# Altium integrated library Linear Technology Power Management Power-Over-Ethernet (PoE) Interface Controllers.IntLib: 174 symbols (part 5 of 16)
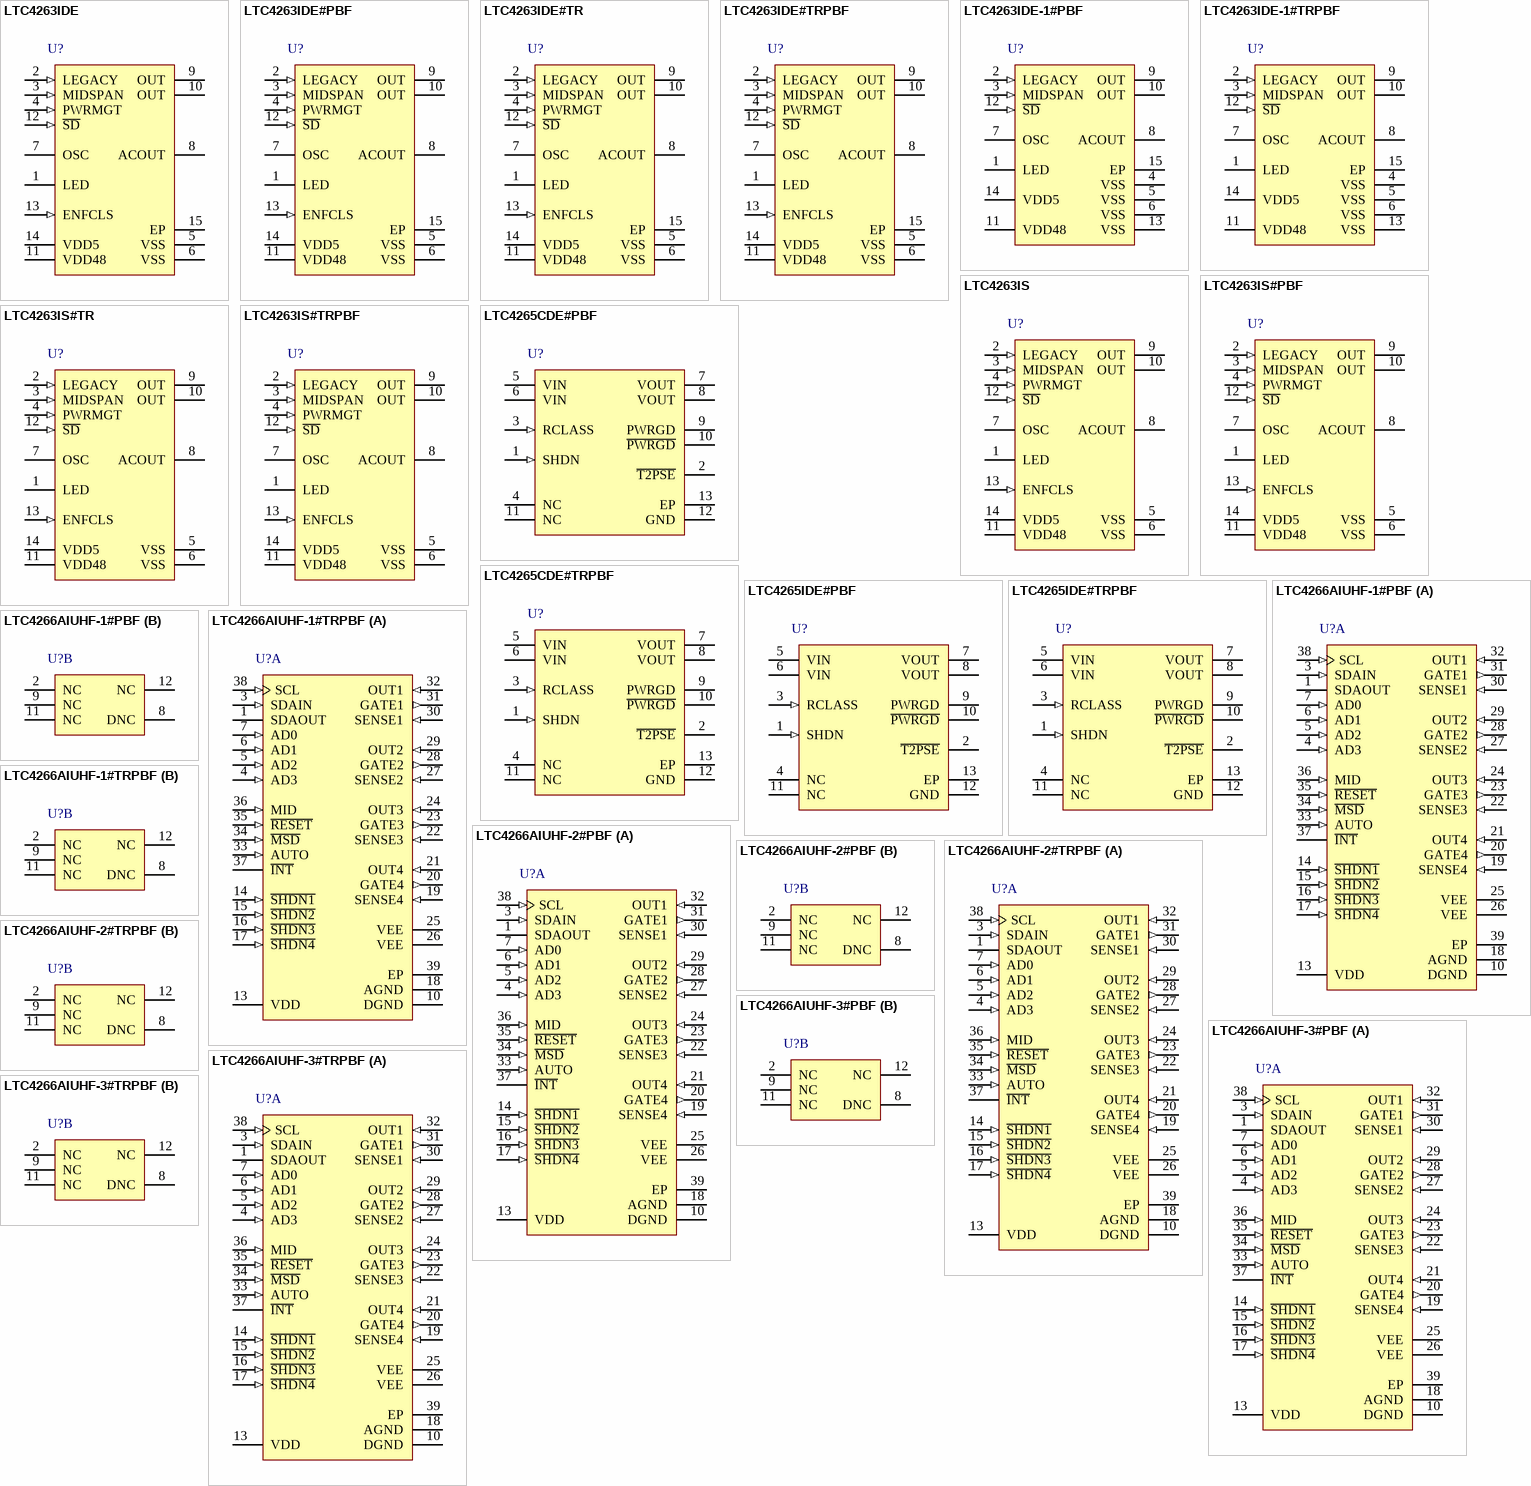
[diagram p12: symbols LTC4263IDE to LTC4266AIUHF-3#TRPBF]

## LTC4263IS
designator U?
Single IEEE 802.3af Compliant PSE Controller with Internal Switch, 14-pin SOIC (S-14), -40 to 85 degC; Manufacturer: Linear Technology; PartNumber: LTC4263IS; Channels(#): 1; Extended Temp: C, I; I2C Interface: no; Max Power(W): 12.95; DatasheetVersion: Rev. E; PackageVersion: Rev. G, 03/2012; PackageReference: S-14; PackageDescription: 14-Pin Plastic Small Outline, Body 8.65 x 3.9 mm, Pitch 1.27 mm; PoE Type: 1; PSE/PD: PSE; RoHS: FALSE; Mounting Technology: Surface Mount; ComponentLink1Description: Manufacturer URL; ComponentLink1URL: http://www.linear.com/; ComponentLink2Description: Datasheet; ComponentLink2URL: http://cds.linear.com/docs/en/datasheet/4263fe.pdf; ComponentLink3Description: Package Specification; ComponentLink3URL: http://cds.linear.com/docs/en/packaging/05081610_G_S14.pdf
footprint LT-S-14_N (SOIC, 14-Leads, Body 8.7x4mm, Pitch 1.27mm, IPC Medium Density)
footprint LT-S-14_L (SOIC, 14-Leads, Body 8.7x4mm, Pitch 1.27mm, IPC High Density)
footprint LT-S-14_M (SOIC, 14-Leads, Body 8.7x4mm, Pitch 1.27mm, IPC Low Density)
pins: 1 LED (oc) "Port State LED Drive. This pin is an open drain output that pulls down when the port is powered. Under port fault conditions, the LED will fl ash in patterns to indicate the nature of the port fault. See the Applications (See Datasheet)", 2 LEGACY (in) "Legacy Detect. This pin controls whether legacy detect is enabled. If held at VDD5, legacy detect is enabled and testing for a large capacitor is performed to detect the presence of a legacy PD on the port.", 3 MIDSPAN (in) "Midspan Enable. If this pin is connected to VDD5, Midspan backoff is enabled and a 3.2 second delay occurs after every failed detect cycle unless the result is open circuit. If held at VSS, no delay occurs after failed (See Datasheet)", 4 PWRMGT (in) "Power Management. The LTC4263 sources current at the PWRMGT pin proportional to the class of the PD that it is powering.", 5 VSS (power) "Negative 48V Supply. Pins 5 and 6 should be tied together on the PCB.", 6 VSS (power) "Negative 48V Supply. Pins 5 and 6 should be tied together on the PCB.", 7 OSC "Oscillator for AC Disconnect. If AC disconnect is used, connect a 0.1uF X7R capacitor from OSC to VSS. Tie OSC to VSS to disable AC disconnect and enable DC disconnect.", 8 ACOUT "AC Disconnect Sense. Senses the port to determine whether a PD is still connected when in AC disconnect mode.", 9 OUT "Port Output. If DC disconnect is used, these pins are connected to the port. If AC disconnect is used, these pins are connected to the port through a parallel combination of a 1A diode and a 500k resistor. Pins 9 and 10 (See Datasheet)", 10 OUT "Port Output. If DC disconnect is used, these pins are connected to the port. If AC disconnect is used, these pins are connected to the port through a parallel combination of a 1A diode and a 500k resistor. Pins 9 and 10 (See Datasheet)", 11 VDD48 (power) "48V Return. Must be bypassed with a 0.1uF capacitor to VSS.", 12 ~{SD} (in) "Shutdown. If held low, the LTC4263 is prevented from performing detection or powering the port. Pulling S\D\ low will turn off the port if it is powered. When released, a 4-second delay will occur before detection is (See Datasheet)", 13 ENFCLS (in) "Enforce Class Current Limits. If held at VDD5, the LTC4263 will reduce the ICUT threshold for class 1 or class 2 PDs. If ENFCLS is held at VSS, ICUT remains at 375mA (typ) for all classes.", 14 VDD5 (power) "Logic Power Supply."

## LTC4263IS#PBF
designator U?
Single IEEE 802.3af Compliant PSE Controller with Internal Switch, 14-pin SOIC (S-14), -40 to 85 degC, Pb-Free; Manufacturer: Linear Technology; PartNumber: LTC4263IS#PBF; Channels(#): 1; Extended Temp: C, I; I2C Interface: no; Max Power(W): 12.95; DatasheetVersion: Rev. E; PackageVersion: Rev. G, 03/2012; PackageReference: S-14; PackageDescription: 14-Pin Plastic Small Outline, Body 8.65 x 3.9 mm, Pitch 1.27 mm; Supplier 1: Digi-Key; Supplier Part Number 1: LTC4263IS#PBF-ND; Supplier 2: Newark; Supplier Part Number 2: 56M9180; PoE Type: 1; PSE/PD: PSE; RoHS: TRUE; Mounting Technology: Surface Mount; ComponentLink1Description: Manufacturer URL; ComponentLink1URL: http://www.linear.com/; ComponentLink2Description: Datasheet; ComponentLink2URL: http://cds.linear.com/docs/en/datasheet/4263fe.pdf; ComponentLink3Description: Package Specification; ComponentLink3URL: http://cds.linear.com/docs/en/packaging/05081610_G_S14.pdf
footprint LT-S-14_N (SOIC, 14-Leads, Body 8.7x4mm, Pitch 1.27mm, IPC Medium Density)
footprint LT-S-14_L (SOIC, 14-Leads, Body 8.7x4mm, Pitch 1.27mm, IPC High Density)
footprint LT-S-14_M (SOIC, 14-Leads, Body 8.7x4mm, Pitch 1.27mm, IPC Low Density)
pins: 1 LED (oc) "Port State LED Drive. This pin is an open drain output that pulls down when the port is powered. Under port fault conditions, the LED will fl ash in patterns to indicate the nature of the port fault. See the Applications (See Datasheet)", 2 LEGACY (in) "Legacy Detect. This pin controls whether legacy detect is enabled. If held at VDD5, legacy detect is enabled and testing for a large capacitor is performed to detect the presence of a legacy PD on the port.", 3 MIDSPAN (in) "Midspan Enable. If this pin is connected to VDD5, Midspan backoff is enabled and a 3.2 second delay occurs after every failed detect cycle unless the result is open circuit. If held at VSS, no delay occurs after failed (See Datasheet)", 4 PWRMGT (in) "Power Management. The LTC4263 sources current at the PWRMGT pin proportional to the class of the PD that it is powering.", 5 VSS (power) "Negative 48V Supply. Pins 5 and 6 should be tied together on the PCB.", 6 VSS (power) "Negative 48V Supply. Pins 5 and 6 should be tied together on the PCB.", 7 OSC "Oscillator for AC Disconnect. If AC disconnect is used, connect a 0.1uF X7R capacitor from OSC to VSS. Tie OSC to VSS to disable AC disconnect and enable DC disconnect.", 8 ACOUT "AC Disconnect Sense. Senses the port to determine whether a PD is still connected when in AC disconnect mode.", 9 OUT "Port Output. If DC disconnect is used, these pins are connected to the port. If AC disconnect is used, these pins are connected to the port through a parallel combination of a 1A diode and a 500k resistor. Pins 9 and 10 (See Datasheet)", 10 OUT "Port Output. If DC disconnect is used, these pins are connected to the port. If AC disconnect is used, these pins are connected to the port through a parallel combination of a 1A diode and a 500k resistor. Pins 9 and 10 (See Datasheet)", 11 VDD48 (power) "48V Return. Must be bypassed with a 0.1uF capacitor to VSS.", 12 ~{SD} (in) "Shutdown. If held low, the LTC4263 is prevented from performing detection or powering the port. Pulling S\D\ low will turn off the port if it is powered. When released, a 4-second delay will occur before detection is (See Datasheet)", 13 ENFCLS (in) "Enforce Class Current Limits. If held at VDD5, the LTC4263 will reduce the ICUT threshold for class 1 or class 2 PDs. If ENFCLS is held at VSS, ICUT remains at 375mA (typ) for all classes.", 14 VDD5 (power) "Logic Power Supply."

## LTC4263IS#TR
designator U?
Single IEEE 802.3af Compliant PSE Controller with Internal Switch, 14-pin SOIC (S-14), -40 to 85 degC, Tape and Reel; Manufacturer: Linear Technology; PartNumber: LTC4263IS#TR; Channels(#): 1; Extended Temp: C, I; I2C Interface: no; Max Power(W): 12.95; DatasheetVersion: Rev. E; PackageVersion: Rev. G, 03/2012; PackageReference: S-14; PackageDescription: 14-Pin Plastic Small Outline, Body 8.65 x 3.9 mm, Pitch 1.27 mm; Packing: Tape and Reel; PoE Type: 1; PSE/PD: PSE; RoHS: FALSE; Mounting Technology: Surface Mount; ComponentLink1Description: Manufacturer URL; ComponentLink1URL: http://www.linear.com/; ComponentLink2Description: Datasheet; ComponentLink2URL: http://cds.linear.com/docs/en/datasheet/4263fe.pdf; ComponentLink3Description: Package Specification; ComponentLink3URL: http://cds.linear.com/docs/en/packaging/05081610_G_S14.pdf
footprint LT-S-14_N (SOIC, 14-Leads, Body 8.7x4mm, Pitch 1.27mm, IPC Medium Density)
footprint LT-S-14_L (SOIC, 14-Leads, Body 8.7x4mm, Pitch 1.27mm, IPC High Density)
footprint LT-S-14_M (SOIC, 14-Leads, Body 8.7x4mm, Pitch 1.27mm, IPC Low Density)
pins: 1 LED (oc) "Port State LED Drive. This pin is an open drain output that pulls down when the port is powered. Under port fault conditions, the LED will fl ash in patterns to indicate the nature of the port fault. See the Applications (See Datasheet)", 2 LEGACY (in) "Legacy Detect. This pin controls whether legacy detect is enabled. If held at VDD5, legacy detect is enabled and testing for a large capacitor is performed to detect the presence of a legacy PD on the port.", 3 MIDSPAN (in) "Midspan Enable. If this pin is connected to VDD5, Midspan backoff is enabled and a 3.2 second delay occurs after every failed detect cycle unless the result is open circuit. If held at VSS, no delay occurs after failed (See Datasheet)", 4 PWRMGT (in) "Power Management. The LTC4263 sources current at the PWRMGT pin proportional to the class of the PD that it is powering.", 5 VSS (power) "Negative 48V Supply. Pins 5 and 6 should be tied together on the PCB.", 6 VSS (power) "Negative 48V Supply. Pins 5 and 6 should be tied together on the PCB.", 7 OSC "Oscillator for AC Disconnect. If AC disconnect is used, connect a 0.1uF X7R capacitor from OSC to VSS. Tie OSC to VSS to disable AC disconnect and enable DC disconnect.", 8 ACOUT "AC Disconnect Sense. Senses the port to determine whether a PD is still connected when in AC disconnect mode.", 9 OUT "Port Output. If DC disconnect is used, these pins are connected to the port. If AC disconnect is used, these pins are connected to the port through a parallel combination of a 1A diode and a 500k resistor. Pins 9 and 10 (See Datasheet)", 10 OUT "Port Output. If DC disconnect is used, these pins are connected to the port. If AC disconnect is used, these pins are connected to the port through a parallel combination of a 1A diode and a 500k resistor. Pins 9 and 10 (See Datasheet)", 11 VDD48 (power) "48V Return. Must be bypassed with a 0.1uF capacitor to VSS.", 12 ~{SD} (in) "Shutdown. If held low, the LTC4263 is prevented from performing detection or powering the port. Pulling S\D\ low will turn off the port if it is powered. When released, a 4-second delay will occur before detection is (See Datasheet)", 13 ENFCLS (in) "Enforce Class Current Limits. If held at VDD5, the LTC4263 will reduce the ICUT threshold for class 1 or class 2 PDs. If ENFCLS is held at VSS, ICUT remains at 375mA (typ) for all classes.", 14 VDD5 (power) "Logic Power Supply."

## LTC4263IS#TRPBF
designator U?
Single IEEE 802.3af Compliant PSE Controller with Internal Switch, 14-pin SOIC (S-14), -40 to 85 degC, Pb-Free, Tape and Reel; Manufacturer: Linear Technology; PartNumber: LTC4263IS#TRPBF; Channels(#): 1; Extended Temp: C, I; I2C Interface: no; Max Power(W): 12.95; DatasheetVersion: Rev. E; PackageVersion: Rev. G, 03/2012; PackageReference: S-14; PackageDescription: 14-Pin Plastic Small Outline, Body 8.65 x 3.9 mm, Pitch 1.27 mm; Supplier 1: Digi-Key; Supplier Part Number 1: LTC4263IS#TRPBF-ND; Packing: Tape and Reel; PoE Type: 1; PSE/PD: PSE; RoHS: TRUE; Mounting Technology: Surface Mount; ComponentLink1Description: Manufacturer URL; ComponentLink1URL: http://www.linear.com/; ComponentLink2Description: Datasheet; ComponentLink2URL: http://cds.linear.com/docs/en/datasheet/4263fe.pdf; ComponentLink3Description: Package Specification; ComponentLink3URL: http://cds.linear.com/docs/en/packaging/05081610_G_S14.pdf
footprint LT-S-14_N (SOIC, 14-Leads, Body 8.7x4mm, Pitch 1.27mm, IPC Medium Density)
footprint LT-S-14_L (SOIC, 14-Leads, Body 8.7x4mm, Pitch 1.27mm, IPC High Density)
footprint LT-S-14_M (SOIC, 14-Leads, Body 8.7x4mm, Pitch 1.27mm, IPC Low Density)
pins: 1 LED (oc) "Port State LED Drive. This pin is an open drain output that pulls down when the port is powered. Under port fault conditions, the LED will fl ash in patterns to indicate the nature of the port fault. See the Applications (See Datasheet)", 2 LEGACY (in) "Legacy Detect. This pin controls whether legacy detect is enabled. If held at VDD5, legacy detect is enabled and testing for a large capacitor is performed to detect the presence of a legacy PD on the port.", 3 MIDSPAN (in) "Midspan Enable. If this pin is connected to VDD5, Midspan backoff is enabled and a 3.2 second delay occurs after every failed detect cycle unless the result is open circuit. If held at VSS, no delay occurs after failed (See Datasheet)", 4 PWRMGT (in) "Power Management. The LTC4263 sources current at the PWRMGT pin proportional to the class of the PD that it is powering.", 5 VSS (power) "Negative 48V Supply. Pins 5 and 6 should be tied together on the PCB.", 6 VSS (power) "Negative 48V Supply. Pins 5 and 6 should be tied together on the PCB.", 7 OSC "Oscillator for AC Disconnect. If AC disconnect is used, connect a 0.1uF X7R capacitor from OSC to VSS. Tie OSC to VSS to disable AC disconnect and enable DC disconnect.", 8 ACOUT "AC Disconnect Sense. Senses the port to determine whether a PD is still connected when in AC disconnect mode.", 9 OUT "Port Output. If DC disconnect is used, these pins are connected to the port. If AC disconnect is used, these pins are connected to the port through a parallel combination of a 1A diode and a 500k resistor. Pins 9 and 10 (See Datasheet)", 10 OUT "Port Output. If DC disconnect is used, these pins are connected to the port. If AC disconnect is used, these pins are connected to the port through a parallel combination of a 1A diode and a 500k resistor. Pins 9 and 10 (See Datasheet)", 11 VDD48 (power) "48V Return. Must be bypassed with a 0.1uF capacitor to VSS.", 12 ~{SD} (in) "Shutdown. If held low, the LTC4263 is prevented from performing detection or powering the port. Pulling S\D\ low will turn off the port if it is powered. When released, a 4-second delay will occur before detection is (See Datasheet)", 13 ENFCLS (in) "Enforce Class Current Limits. If held at VDD5, the LTC4263 will reduce the ICUT threshold for class 1 or class 2 PDs. If ENFCLS is held at VSS, ICUT remains at 375mA (typ) for all classes.", 14 VDD5 (power) "Logic Power Supply."

## LTC4265CDE#PBF
designator U?
IEEE 802.3at High Power PD Interface Controller with 2-Event Classification Recognition,12-pin SON (DE-12), 0 to 70 degC, Pb-Free; Manufacturer: Linear Technology; PartNumber: LTC4265CDE#PBF; Channels(#): 1; Extended Temp: C, I; I2C Interface: no; Max Power(W): 25.5; PoE Type: 2; DatasheetVersion: Rev. A; PackageVersion: Rev. D, 06/2010; PackageReference: DE-12; PackageDescription: 12-Pin Plastic DFN, Body 4 x 3 mm, Pitch 0.5 mm; Supplier 1: Digi-Key; Supplier Part Number 1: LTC4265CDE#PBF-ND; Supplier 2: Newark; Supplier Part Number 2: 44P2420; PSE/PD: PD; RoHS: TRUE; Mounting Technology: Surface Mount; Code_JEDEC: MO-229; ComponentLink1Description: Manufacturer URL; ComponentLink1URL: http://www.linear.com/; ComponentLink2Description: Datasheet; ComponentLink2URL: http://cds.linear.com/docs/en/datasheet/4265fa.pdf; ComponentLink3Description: Package Specification; ComponentLink3URL: http://cds.linear.com/docs/en/packaging/DFN_12_05-08-1695.pdf
footprint LT-DE-12-05-08-1695_V (SON, 12-Leads, Body 4x3mm, Pitch 0.5mm, Thermal Pad 3.3x1.7mm)
pins: 1 SHDN (in) "Shutdown Input. Use this pin for auxiliary power application. Drive SHDN high to disable LTC4265 operation and corrupt the signature resistance. If unused, tie SHDN to VIN.", 2 ~{T2PSE} (oc) "Type-2 PSE Indicator, Open-Drain. Low impedance indicates the presence of a Type-2 PSE.", 3 RCLASS (in) "Class Select Input. Connect a resistor between RCLASS and VIN to set the classification load current. (See Table 2.)", 4 NC "No Connect", 5 VIN (power) "Input Voltage, Negative Rail. Pins 5 and 6 must be electrically tied together at the package.", 6 VIN (power) "Input Voltage, Negative Rail. Pins 5 and 6 must be electrically tied together at the package.", 7 VOUT (power) "Output Voltage Negative Rail. Connects VOUT to VIN through an internal power MOSFET. Pins 7 and 8 must be electrically tied together at the package.", 8 VOUT (power) "Output Voltage Negative Rail. Connects VOUT to VIN through an internal power MOSFET. Pins 7 and 8 must be electrically tied together at the package.", 9 PWRGD (hiz) "Power Good Output, Open Collector. High impedance signals power-up completion. PWRGD is referenced to VOUT and features a 14V clamp.", 10 ~{PWRGD} (oc) "Complementary Power Good Output, Open-Drain. Low impedance signals power up completion. P\W\R\G\D\ is referenced to VIN.", 11 NC "No Connect", 12 GND (power) "Input Voltage, Positive Rail. This pin is connected to the PD positive rail.", 13 EP (power) "Tie to VIN and PCB heat sink."

## LTC4265CDE#TRPBF
designator U?
IEEE 802.3at High Power PD Interface Controller with 2-Event Classification Recognition,12-pin SON (DE-12), 0 to 70 degC, Pb-Free, Tape and Reel; Manufacturer: Linear Technology; PartNumber: LTC4265CDE#TRPBF; Channels(#): 1; Extended Temp: C, I; I2C Interface: no; Max Power(W): 25.5; PoE Type: 2; DatasheetVersion: Rev. A; PackageVersion: Rev. D, 06/2010; PackageReference: DE-12; PackageDescription: 12-Pin Plastic DFN, Body 4 x 3 mm, Pitch 0.5 mm; Supplier 1: Digi-Key; Supplier Part Number 1: LTC4265CDE#TRPBF-ND; Supplier 2: Newark; Supplier Part Number 2: 44P3986; Packing: Tape and Reel; PSE/PD: PD; RoHS: TRUE; Mounting Technology: Surface Mount; Code_JEDEC: MO-229; ComponentLink1Description: Manufacturer URL; ComponentLink1URL: http://www.linear.com/; ComponentLink2Description: Datasheet; ComponentLink2URL: http://cds.linear.com/docs/en/datasheet/4265fa.pdf; ComponentLink3Description: Package Specification; ComponentLink3URL: http://cds.linear.com/docs/en/packaging/DFN_12_05-08-1695.pdf
footprint LT-DE-12-05-08-1695_V (SON, 12-Leads, Body 4x3mm, Pitch 0.5mm, Thermal Pad 3.3x1.7mm)
pins: 1 SHDN (in) "Shutdown Input. Use this pin for auxiliary power application. Drive SHDN high to disable LTC4265 operation and corrupt the signature resistance. If unused, tie SHDN to VIN.", 2 ~{T2PSE} (oc) "Type-2 PSE Indicator, Open-Drain. Low impedance indicates the presence of a Type-2 PSE.", 3 RCLASS (in) "Class Select Input. Connect a resistor between RCLASS and VIN to set the classification load current. (See Table 2.)", 4 NC "No Connect", 5 VIN (power) "Input Voltage, Negative Rail. Pins 5 and 6 must be electrically tied together at the package.", 6 VIN (power) "Input Voltage, Negative Rail. Pins 5 and 6 must be electrically tied together at the package.", 7 VOUT (power) "Output Voltage Negative Rail. Connects VOUT to VIN through an internal power MOSFET. Pins 7 and 8 must be electrically tied together at the package.", 8 VOUT (power) "Output Voltage Negative Rail. Connects VOUT to VIN through an internal power MOSFET. Pins 7 and 8 must be electrically tied together at the package.", 9 PWRGD (hiz) "Power Good Output, Open Collector. High impedance signals power-up completion. PWRGD is referenced to VOUT and features a 14V clamp.", 10 ~{PWRGD} (oc) "Complementary Power Good Output, Open-Drain. Low impedance signals power up completion. P\W\R\G\D\ is referenced to VIN.", 11 NC "No Connect", 12 GND (power) "Input Voltage, Positive Rail. This pin is connected to the PD positive rail.", 13 EP (power) "Tie to VIN and PCB heat sink."

## LTC4265IDE#PBF
designator U?
IEEE 802.3at High Power PD Interface Controller with 2-Event Classification Recognition,12-pin SON (DE-12), -40 to 85 degC, Pb-Free; Manufacturer: Linear Technology; PartNumber: LTC4265IDE#PBF; Channels(#): 1; Extended Temp: C, I; I2C Interface: no; Max Power(W): 25.5; PoE Type: 2; DatasheetVersion: Rev. A; PackageVersion: Rev. D, 06/2010; PackageReference: DE-12; PackageDescription: 12-Pin Plastic DFN, Body 4 x 3 mm, Pitch 0.5 mm; Supplier 1: Digi-Key; Supplier Part Number 1: LTC4265IDE#PBF-ND; Supplier 2: Newark; Supplier Part Number 2: 44P2421; PSE/PD: PD; RoHS: TRUE; Mounting Technology: Surface Mount; Code_JEDEC: MO-229; ComponentLink1Description: Manufacturer URL; ComponentLink1URL: http://www.linear.com/; ComponentLink2Description: Datasheet; ComponentLink2URL: http://cds.linear.com/docs/en/datasheet/4265fa.pdf; ComponentLink3Description: Package Specification; ComponentLink3URL: http://cds.linear.com/docs/en/packaging/DFN_12_05-08-1695.pdf
footprint LT-DE-12-05-08-1695_V (SON, 12-Leads, Body 4x3mm, Pitch 0.5mm, Thermal Pad 3.3x1.7mm)
pins: 1 SHDN (in) "Shutdown Input. Use this pin for auxiliary power application. Drive SHDN high to disable LTC4265 operation and corrupt the signature resistance. If unused, tie SHDN to VIN.", 2 ~{T2PSE} (oc) "Type-2 PSE Indicator, Open-Drain. Low impedance indicates the presence of a Type-2 PSE.", 3 RCLASS (in) "Class Select Input. Connect a resistor between RCLASS and VIN to set the classification load current. (See Table 2.)", 4 NC "No Connect", 5 VIN (power) "Input Voltage, Negative Rail. Pins 5 and 6 must be electrically tied together at the package.", 6 VIN (power) "Input Voltage, Negative Rail. Pins 5 and 6 must be electrically tied together at the package.", 7 VOUT (power) "Output Voltage Negative Rail. Connects VOUT to VIN through an internal power MOSFET. Pins 7 and 8 must be electrically tied together at the package.", 8 VOUT (power) "Output Voltage Negative Rail. Connects VOUT to VIN through an internal power MOSFET. Pins 7 and 8 must be electrically tied together at the package.", 9 PWRGD (hiz) "Power Good Output, Open Collector. High impedance signals power-up completion. PWRGD is referenced to VOUT and features a 14V clamp.", 10 ~{PWRGD} (oc) "Complementary Power Good Output, Open-Drain. Low impedance signals power up completion. P\W\R\G\D\ is referenced to VIN.", 11 NC "No Connect", 12 GND (power) "Input Voltage, Positive Rail. This pin is connected to the PD positive rail.", 13 EP (power) "Tie to VIN and PCB heat sink."

## LTC4265IDE#TRPBF
designator U?
IEEE 802.3at High Power PD Interface Controller with 2-Event Classification Recognition,12-pin SON (DE-12), -40 to 85 degC, Pb-Free, Tape and Reel; Manufacturer: Linear Technology; PartNumber: LTC4265IDE#TRPBF; Channels(#): 1; Extended Temp: C, I; I2C Interface: no; Max Power(W): 25.5; PoE Type: 2; DatasheetVersion: Rev. A; PackageVersion: Rev. D, 06/2010; PackageReference: DE-12; PackageDescription: 12-Pin Plastic DFN, Body 4 x 3 mm, Pitch 0.5 mm; Supplier 1: Digi-Key; Supplier Part Number 1: LTC4265IDE#TRPBF-ND; Supplier 2: Newark; Supplier Part Number 2: 44P3987; Packing: Tape and Reel; PSE/PD: PD; RoHS: TRUE; Mounting Technology: Surface Mount; Code_JEDEC: MO-229; ComponentLink1Description: Manufacturer URL; ComponentLink1URL: http://www.linear.com/; ComponentLink2Description: Datasheet; ComponentLink2URL: http://cds.linear.com/docs/en/datasheet/4265fa.pdf; ComponentLink3Description: Package Specification; ComponentLink3URL: http://cds.linear.com/docs/en/packaging/DFN_12_05-08-1695.pdf
footprint LT-DE-12-05-08-1695_V (SON, 12-Leads, Body 4x3mm, Pitch 0.5mm, Thermal Pad 3.3x1.7mm)
pins: 1 SHDN (in) "Shutdown Input. Use this pin for auxiliary power application. Drive SHDN high to disable LTC4265 operation and corrupt the signature resistance. If unused, tie SHDN to VIN.", 2 ~{T2PSE} (oc) "Type-2 PSE Indicator, Open-Drain. Low impedance indicates the presence of a Type-2 PSE.", 3 RCLASS (in) "Class Select Input. Connect a resistor between RCLASS and VIN to set the classification load current. (See Table 2.)", 4 NC "No Connect", 5 VIN (power) "Input Voltage, Negative Rail. Pins 5 and 6 must be electrically tied together at the package.", 6 VIN (power) "Input Voltage, Negative Rail. Pins 5 and 6 must be electrically tied together at the package.", 7 VOUT (power) "Output Voltage Negative Rail. Connects VOUT to VIN through an internal power MOSFET. Pins 7 and 8 must be electrically tied together at the package.", 8 VOUT (power) "Output Voltage Negative Rail. Connects VOUT to VIN through an internal power MOSFET. Pins 7 and 8 must be electrically tied together at the package.", 9 PWRGD (hiz) "Power Good Output, Open Collector. High impedance signals power-up completion. PWRGD is referenced to VOUT and features a 14V clamp.", 10 ~{PWRGD} (oc) "Complementary Power Good Output, Open-Drain. Low impedance signals power up completion. P\W\R\G\D\ is referenced to VIN.", 11 NC "No Connect", 12 GND (power) "Input Voltage, Positive Rail. This pin is connected to the PD positive rail.", 13 EP (power) "Tie to VIN and PCB heat sink."

## LTC4266AIUHF-1#PBF
designator U?
Quad PoE / PoE+ / LTPoE++ PSE Controller, 38-pin QFN (UHF-38), -40 to 85 degC, Pb-Free; Manufacturer: Linear Technology; PartNumber: LTC4266AIUHF-1#PBF; Channels(#): 4; Extended Temp: I; I2C Interface: yes; Max Power(W): 38.7; DatasheetVersion: Rev. C; PackageVersion: Rev. C, 06/2010; PackageReference: UHF-38; PackageDescription: 38-Pin Plastic QFN, Body 7 x 5 mm, Pitch 0.5 mm; Supplier 1: Digi-Key; Supplier Part Number 1: LTC4266AIUHF-1#PBF-ND; Supplier 2: Farnell; Supplier Part Number 2: 2293143; Supplier 3: Newark; Supplier Part Number 3: 59T5698; PoE Type: LTPoE++; PSE/PD: PSE; RoHS: TRUE; Mounting Technology: Surface Mount; Code_JEDEC: MO-220; ComponentLink1Description: Manufacturer URL; ComponentLink1URL: http://www.linear.com/; ComponentLink2Description: Datasheet; ComponentLink2URL: http://cds.linear.com/docs/en/datasheet/4266acfc.pdf; ComponentLink3Description: Package Specification; ComponentLink3URL: http://cds.linear.com/docs/en/packaging/QFN_38_05-08-1701.pdf
footprint LT-UHF-38_N (QFN, 38-Leads, Body 7.1x5.1mm, Pitch 0.5mm, Thermal Pad 3.15x5.15mm, IPC Medium Density)
footprint LT-UHF-38_L (QFN, 38-Leads, Body 7.1x5.1mm, Pitch 0.5mm, Thermal Pad 3.15x5.15mm, IPC High Density)
footprint LT-UHF-38_M (QFN, 38-Leads, Body 7.1x5.1mm, Pitch 0.5mm, Thermal Pad 3.15x5.15mm, IPC Low Density)
part A pins: 1 SDAOUT (oc) "SDAOUT: Serial Data Output, Open Drain Data Output for the I2C Serial Interface Bus. The LTC4266A/LTC4266C uses two pins to implement the bidirectional SDA function to simplify optoisolation of the I2C bus. To implement a (See Datasheet)", 3 SDAIN (in) "SDAIN: Serial Data Input. High impedance data input for the I2C serial interface bus. The LTC4266A/LTC4266C uses two pins to implement the bidirectional SDA function to simplify optoisolation of the I2C bus. To implement a (See Datasheet)", 4 AD3 (in) "AD3: Address Bit 3. Tie the address pins high or low to set the I2C serial address to which the LTC4266A/LTC4266C responds. This address will be 010A3A2A1A0b. Internally pulled up to VDD.", 5 AD2 (in) "AD2: Address Bit 2. See AD3.", 6 AD1 (in) "AD1: Address Bit 1. See AD3.", 7 AD0 (in) "AD0: Address Bit 0. See AD3.", 10 DGND (power) "DGND: Digital Ground. DGND is the return for the VDD supply.", 13 VDD (power) "VDD: Logic Power Supply. Connect to a 3.3V power supply relative to DGND. VDD must be bypassed to DGND near the LTC4266A/LTC4266C with at least a 0.1uF capacitor.", 14 ~{SHDN1} (in) "S\H\D\N\1\: Shutdown Port 1, Active Low. When pulled low, S\H\D\N\1\ shuts down port 1, regardless of the state of the internal registers. Pulling S\H\D\N\1\ low is equivalent to setting the Reset Port 1 bit in the Reset (See Datasheet)", 15 ~{SHDN2} (in) "S\H\D\N\2\: Shutdown Port 2, Active Low. See S\H\D\N\1\.", 16 ~{SHDN3} (in) "S\H\D\N\3\: Shutdown Port 3, Active Low. See S\H\D\N\1\.", 17 ~{SHDN4} (in) "S\H\D\N\4\: Shutdown Port 4, Active Low. See S\H\D\N\1\.", 18 AGND (power) "AGND: Analog Ground. AGND is the return for the VEE supply.", 19 SENSE4 (in) "SENSE4: Port 4 Current Sense Input. SENSE4 monitors the external MOSFET current via a 0.5ohm or 0.25ohm sense resistor between SENSE4 and VEE. Whenever the voltage across the sense resistor exceeds the overcurrent detection (See Datasheet)", 20 GATE4 (out) "GATE4: Port 4 Gate Drive. GATE4 should be connected to the gate of the external MOSFET for port 4. When the MOSFET is turned on, the gate voltage is driven to 12V (typ) above VEE. During a current limit condition, the (See Datasheet)", 21 OUT4 (in) "OUT4: Port 4 Output Voltage Monitor. OUT4 should be connected to the output port. A current limit foldback circuit limits the power dissipation in the external MOSFET by reducing the current limit threshold when the (See Datasheet)", 22 SENSE3 (in) "SENSE3: Port 3 Current Sense Input. See SENSE4.", 23 GATE3 (out) "GATE3: Port 3 Gate Drive. See GATE4.", 24 OUT3 (in) "OUT3: Port 3 Output Voltage Monitor. See OUT4.", 25 VEE (power) "VEE: Main Supply Input. Connect to a -45V to -57V supply, relative to AGND.", 26 VEE (power) "VEE: Main Supply Input. Connect to a -45V to -57V supply, relative to AGND.", 27 SENSE2 (in) "SENSE2: Port 2 Current Sense Input. See SENSE4.", 28 GATE2 (out) "GATE2: Port 2 Gate Drive. See GATE4.", 29 OUT2 (in) "OUT2: Port 2 Output Voltage Monitor. See OUT4.", 30 SENSE1 (in) "SENSE1: Port 1 Current Sense Input. See SENSE4.", 31 GATE1 (out) "GATE1: Port 1 Gate Drive. See GATE 4.", 32 OUT1 (in) "OUT1: Port 1 Output Voltage Monitor. See OUT4.", 33 AUTO (in) "AUTO: AUTO Pin Mode Input. AUTO pin mode allows the LTC4266A/LTC4266C to detect and power up a PD even if there is no host controller present on the I2C bus. The voltage of the AUTO pin determines the state of the internal (See Datasheet)", 34 ~{MSD} (in) "M\S\D\: Maskable Shutdown Input. Active low. When pulled low, all ports that have their corresponding mask bit set in the Misc Config register (17h) will be reset, equivalent to pulling the S\H\D\N\ pin low. Internal (See Datasheet)", 35 ~{RESET} (in) "R\E\S\E\T\: Chip R\E\S\E\T\, Active Low. When the R\E\S\E\T\ pin is low, the LTC4266A/LTC4266C is held inactive with all ports off and all internal registers R\E\S\E\T\ to their power-up states. When R\E\S\E\T\ is pulled (See Datasheet)", 36 MID (in) "MID: Midspan Mode Input. When high, the LTC4266A/LTC4266C acts as a midspan device. Internally pulled down to DGND.", 37 ~{INT} (hiz) "I\N\T\: I\N\T\errupt Output, Open Drain. I\N\T\ will pull low when any one of several events occur in the LTC4266A/LTC4266C. It will return to a high impedance state when bits 6 or 7 are set in the Reset PB register (1Ah). (See Datasheet)", 38 SCL (in) "SCL: Serial Clock Input. High impedance clock input for the I2C serial interface bus. SCL must be tied high if not used.", 39 EP (power)
part B pins: 2 NC "NC, DNC: All pins identified with "NC" or "DNC" must be left unconnected.", 8 DNC "NC, DNC: All pins identified with "NC" or "DNC" must be left unconnected.", 9 NC "NC, DNC: All pins identified with "NC" or "DNC" must be left unconnected.", 11 NC "NC, DNC: All pins identified with "NC" or "DNC" must be left unconnected.", 12 NC "NC, DNC: All pins identified with "NC" or "DNC" must be left unconnected."

## LTC4266AIUHF-1#TRPBF
designator U?
Quad PoE / PoE+ / LTPoE++ PSE Controller, 38-pin QFN (UHF-38), -40 to 85 degC, Pb-Free, Tape and Reel; Manufacturer: Linear Technology; PartNumber: LTC4266AIUHF-1#TRPBF; Channels(#): 4; Extended Temp: I; I2C Interface: yes; Max Power(W): 38.7; DatasheetVersion: Rev. C; PackageVersion: Rev. C, 06/2010; PackageReference: UHF-38; PackageDescription: 38-Pin Plastic QFN, Body 7 x 5 mm, Pitch 0.5 mm; Supplier 1: Digi-Key; Supplier Part Number 1: LTC4266AIUHF-1#TRPBF-ND; Packing: Tape and Reel; PoE Type: LTPoE++; PSE/PD: PSE; RoHS: TRUE; Mounting Technology: Surface Mount; Code_JEDEC: MO-220; ComponentLink1Description: Manufacturer URL; ComponentLink1URL: http://www.linear.com/; ComponentLink2Description: Datasheet; ComponentLink2URL: http://cds.linear.com/docs/en/datasheet/4266acfc.pdf; ComponentLink3Description: Package Specification; ComponentLink3URL: http://cds.linear.com/docs/en/packaging/QFN_38_05-08-1701.pdf
footprint LT-UHF-38_N (QFN, 38-Leads, Body 7.1x5.1mm, Pitch 0.5mm, Thermal Pad 3.15x5.15mm, IPC Medium Density)
footprint LT-UHF-38_L (QFN, 38-Leads, Body 7.1x5.1mm, Pitch 0.5mm, Thermal Pad 3.15x5.15mm, IPC High Density)
footprint LT-UHF-38_M (QFN, 38-Leads, Body 7.1x5.1mm, Pitch 0.5mm, Thermal Pad 3.15x5.15mm, IPC Low Density)
part A pins: 1 SDAOUT (oc) "SDAOUT: Serial Data Output, Open Drain Data Output for the I2C Serial Interface Bus. The LTC4266A/LTC4266C uses two pins to implement the bidirectional SDA function to simplify optoisolation of the I2C bus. To implement a (See Datasheet)", 3 SDAIN (in) "SDAIN: Serial Data Input. High impedance data input for the I2C serial interface bus. The LTC4266A/LTC4266C uses two pins to implement the bidirectional SDA function to simplify optoisolation of the I2C bus. To implement a (See Datasheet)", 4 AD3 (in) "AD3: Address Bit 3. Tie the address pins high or low to set the I2C serial address to which the LTC4266A/LTC4266C responds. This address will be 010A3A2A1A0b. Internally pulled up to VDD.", 5 AD2 (in) "AD2: Address Bit 2. See AD3.", 6 AD1 (in) "AD1: Address Bit 1. See AD3.", 7 AD0 (in) "AD0: Address Bit 0. See AD3.", 10 DGND (power) "DGND: Digital Ground. DGND is the return for the VDD supply.", 13 VDD (power) "VDD: Logic Power Supply. Connect to a 3.3V power supply relative to DGND. VDD must be bypassed to DGND near the LTC4266A/LTC4266C with at least a 0.1uF capacitor.", 14 ~{SHDN1} (in) "S\H\D\N\1\: Shutdown Port 1, Active Low. When pulled low, S\H\D\N\1\ shuts down port 1, regardless of the state of the internal registers. Pulling S\H\D\N\1\ low is equivalent to setting the Reset Port 1 bit in the Reset (See Datasheet)", 15 ~{SHDN2} (in) "S\H\D\N\2\: Shutdown Port 2, Active Low. See S\H\D\N\1\.", 16 ~{SHDN3} (in) "S\H\D\N\3\: Shutdown Port 3, Active Low. See S\H\D\N\1\.", 17 ~{SHDN4} (in) "S\H\D\N\4\: Shutdown Port 4, Active Low. See S\H\D\N\1\.", 18 AGND (power) "AGND: Analog Ground. AGND is the return for the VEE supply.", 19 SENSE4 (in) "SENSE4: Port 4 Current Sense Input. SENSE4 monitors the external MOSFET current via a 0.5ohm or 0.25ohm sense resistor between SENSE4 and VEE. Whenever the voltage across the sense resistor exceeds the overcurrent detection (See Datasheet)", 20 GATE4 (out) "GATE4: Port 4 Gate Drive. GATE4 should be connected to the gate of the external MOSFET for port 4. When the MOSFET is turned on, the gate voltage is driven to 12V (typ) above VEE. During a current limit condition, the (See Datasheet)", 21 OUT4 (in) "OUT4: Port 4 Output Voltage Monitor. OUT4 should be connected to the output port. A current limit foldback circuit limits the power dissipation in the external MOSFET by reducing the current limit threshold when the (See Datasheet)", 22 SENSE3 (in) "SENSE3: Port 3 Current Sense Input. See SENSE4.", 23 GATE3 (out) "GATE3: Port 3 Gate Drive. See GATE4.", 24 OUT3 (in) "OUT3: Port 3 Output Voltage Monitor. See OUT4.", 25 VEE (power) "VEE: Main Supply Input. Connect to a -45V to -57V supply, relative to AGND.", 26 VEE (power) "VEE: Main Supply Input. Connect to a -45V to -57V supply, relative to AGND.", 27 SENSE2 (in) "SENSE2: Port 2 Current Sense Input. See SENSE4.", 28 GATE2 (out) "GATE2: Port 2 Gate Drive. See GATE4.", 29 OUT2 (in) "OUT2: Port 2 Output Voltage Monitor. See OUT4.", 30 SENSE1 (in) "SENSE1: Port 1 Current Sense Input. See SENSE4.", 31 GATE1 (out) "GATE1: Port 1 Gate Drive. See GATE 4.", 32 OUT1 (in) "OUT1: Port 1 Output Voltage Monitor. See OUT4.", 33 AUTO (in) "AUTO: AUTO Pin Mode Input. AUTO pin mode allows the LTC4266A/LTC4266C to detect and power up a PD even if there is no host controller present on the I2C bus. The voltage of the AUTO pin determines the state of the internal (See Datasheet)", 34 ~{MSD} (in) "M\S\D\: Maskable Shutdown Input. Active low. When pulled low, all ports that have their corresponding mask bit set in the Misc Config register (17h) will be reset, equivalent to pulling the S\H\D\N\ pin low. Internal (See Datasheet)", 35 ~{RESET} (in) "R\E\S\E\T\: Chip R\E\S\E\T\, Active Low. When the R\E\S\E\T\ pin is low, the LTC4266A/LTC4266C is held inactive with all ports off and all internal registers R\E\S\E\T\ to their power-up states. When R\E\S\E\T\ is pulled (See Datasheet)", 36 MID (in) "MID: Midspan Mode Input. When high, the LTC4266A/LTC4266C acts as a midspan device. Internally pulled down to DGND.", 37 ~{INT} (hiz) "I\N\T\: I\N\T\errupt Output, Open Drain. I\N\T\ will pull low when any one of several events occur in the LTC4266A/LTC4266C. It will return to a high impedance state when bits 6 or 7 are set in the Reset PB register (1Ah). (See Datasheet)", 38 SCL (in) "SCL: Serial Clock Input. High impedance clock input for the I2C serial interface bus. SCL must be tied high if not used.", 39 EP (power)
part B pins: 2 NC "NC, DNC: All pins identified with "NC" or "DNC" must be left unconnected.", 8 DNC "NC, DNC: All pins identified with "NC" or "DNC" must be left unconnected.", 9 NC "NC, DNC: All pins identified with "NC" or "DNC" must be left unconnected.", 11 NC "NC, DNC: All pins identified with "NC" or "DNC" must be left unconnected.", 12 NC "NC, DNC: All pins identified with "NC" or "DNC" must be left unconnected."

## LTC4266AIUHF-2#PBF
designator U?
Quad PoE / PoE+ / LTPoE++ PSE Controller, 38-pin QFN (UHF-38), -40 to 85 degC, Pb-Free; Manufacturer: Linear Technology; PartNumber: LTC4266AIUHF-2#PBF; Channels(#): 4; Extended Temp: I; I2C Interface: yes; Max Power(W): 52.7; DatasheetVersion: Rev. C; PackageVersion: Rev. C, 06/2010; PackageReference: UHF-38; PackageDescription: 38-Pin Plastic QFN, Body 7 x 5 mm, Pitch 0.5 mm; Supplier 1: Digi-Key; Supplier Part Number 1: LTC4266AIUHF-2#PBF-ND; Supplier 2: Farnell; Supplier Part Number 2: 2293144; Supplier 3: Newark; Supplier Part Number 3: 59T5700; PoE Type: LTPoE++; PSE/PD: PSE; RoHS: TRUE; Mounting Technology: Surface Mount; Code_JEDEC: MO-220; ComponentLink1Description: Manufacturer URL; ComponentLink1URL: http://www.linear.com/; ComponentLink2Description: Datasheet; ComponentLink2URL: http://cds.linear.com/docs/en/datasheet/4266acfc.pdf; ComponentLink3Description: Package Specification; ComponentLink3URL: http://cds.linear.com/docs/en/packaging/QFN_38_05-08-1701.pdf
footprint LT-UHF-38_N (QFN, 38-Leads, Body 7.1x5.1mm, Pitch 0.5mm, Thermal Pad 3.15x5.15mm, IPC Medium Density)
footprint LT-UHF-38_L (QFN, 38-Leads, Body 7.1x5.1mm, Pitch 0.5mm, Thermal Pad 3.15x5.15mm, IPC High Density)
footprint LT-UHF-38_M (QFN, 38-Leads, Body 7.1x5.1mm, Pitch 0.5mm, Thermal Pad 3.15x5.15mm, IPC Low Density)
part A pins: 1 SDAOUT (oc) "SDAOUT: Serial Data Output, Open Drain Data Output for the I2C Serial Interface Bus. The LTC4266A/LTC4266C uses two pins to implement the bidirectional SDA function to simplify optoisolation of the I2C bus. To implement a (See Datasheet)", 3 SDAIN (in) "SDAIN: Serial Data Input. High impedance data input for the I2C serial interface bus. The LTC4266A/LTC4266C uses two pins to implement the bidirectional SDA function to simplify optoisolation of the I2C bus. To implement a (See Datasheet)", 4 AD3 (in) "AD3: Address Bit 3. Tie the address pins high or low to set the I2C serial address to which the LTC4266A/LTC4266C responds. This address will be 010A3A2A1A0b. Internally pulled up to VDD.", 5 AD2 (in) "AD2: Address Bit 2. See AD3.", 6 AD1 (in) "AD1: Address Bit 1. See AD3.", 7 AD0 (in) "AD0: Address Bit 0. See AD3.", 10 DGND (power) "DGND: Digital Ground. DGND is the return for the VDD supply.", 13 VDD (power) "VDD: Logic Power Supply. Connect to a 3.3V power supply relative to DGND. VDD must be bypassed to DGND near the LTC4266A/LTC4266C with at least a 0.1uF capacitor.", 14 ~{SHDN1} (in) "S\H\D\N\1\: Shutdown Port 1, Active Low. When pulled low, S\H\D\N\1\ shuts down port 1, regardless of the state of the internal registers. Pulling S\H\D\N\1\ low is equivalent to setting the Reset Port 1 bit in the Reset (See Datasheet)", 15 ~{SHDN2} (in) "S\H\D\N\2\: Shutdown Port 2, Active Low. See S\H\D\N\1\.", 16 ~{SHDN3} (in) "S\H\D\N\3\: Shutdown Port 3, Active Low. See S\H\D\N\1\.", 17 ~{SHDN4} (in) "S\H\D\N\4\: Shutdown Port 4, Active Low. See S\H\D\N\1\.", 18 AGND (power) "AGND: Analog Ground. AGND is the return for the VEE supply.", 19 SENSE4 (in) "SENSE4: Port 4 Current Sense Input. SENSE4 monitors the external MOSFET current via a 0.5ohm or 0.25ohm sense resistor between SENSE4 and VEE. Whenever the voltage across the sense resistor exceeds the overcurrent detection (See Datasheet)", 20 GATE4 (out) "GATE4: Port 4 Gate Drive. GATE4 should be connected to the gate of the external MOSFET for port 4. When the MOSFET is turned on, the gate voltage is driven to 12V (typ) above VEE. During a current limit condition, the (See Datasheet)", 21 OUT4 (in) "OUT4: Port 4 Output Voltage Monitor. OUT4 should be connected to the output port. A current limit foldback circuit limits the power dissipation in the external MOSFET by reducing the current limit threshold when the (See Datasheet)", 22 SENSE3 (in) "SENSE3: Port 3 Current Sense Input. See SENSE4.", 23 GATE3 (out) "GATE3: Port 3 Gate Drive. See GATE4.", 24 OUT3 (in) "OUT3: Port 3 Output Voltage Monitor. See OUT4.", 25 VEE (power) "VEE: Main Supply Input. Connect to a -45V to -57V supply, relative to AGND.", 26 VEE (power) "VEE: Main Supply Input. Connect to a -45V to -57V supply, relative to AGND.", 27 SENSE2 (in) "SENSE2: Port 2 Current Sense Input. See SENSE4.", 28 GATE2 (out) "GATE2: Port 2 Gate Drive. See GATE4.", 29 OUT2 (in) "OUT2: Port 2 Output Voltage Monitor. See OUT4.", 30 SENSE1 (in) "SENSE1: Port 1 Current Sense Input. See SENSE4.", 31 GATE1 (out) "GATE1: Port 1 Gate Drive. See GATE 4.", 32 OUT1 (in) "OUT1: Port 1 Output Voltage Monitor. See OUT4.", 33 AUTO (in) "AUTO: AUTO Pin Mode Input. AUTO pin mode allows the LTC4266A/LTC4266C to detect and power up a PD even if there is no host controller present on the I2C bus. The voltage of the AUTO pin determines the state of the internal (See Datasheet)", 34 ~{MSD} (in) "M\S\D\: Maskable Shutdown Input. Active low. When pulled low, all ports that have their corresponding mask bit set in the Misc Config register (17h) will be reset, equivalent to pulling the S\H\D\N\ pin low. Internal (See Datasheet)", 35 ~{RESET} (in) "R\E\S\E\T\: Chip R\E\S\E\T\, Active Low. When the R\E\S\E\T\ pin is low, the LTC4266A/LTC4266C is held inactive with all ports off and all internal registers R\E\S\E\T\ to their power-up states. When R\E\S\E\T\ is pulled (See Datasheet)", 36 MID (in) "MID: Midspan Mode Input. When high, the LTC4266A/LTC4266C acts as a midspan device. Internally pulled down to DGND.", 37 ~{INT} (hiz) "I\N\T\: I\N\T\errupt Output, Open Drain. I\N\T\ will pull low when any one of several events occur in the LTC4266A/LTC4266C. It will return to a high impedance state when bits 6 or 7 are set in the Reset PB register (1Ah). (See Datasheet)", 38 SCL (in) "SCL: Serial Clock Input. High impedance clock input for the I2C serial interface bus. SCL must be tied high if not used.", 39 EP (power)
part B pins: 2 NC "NC, DNC: All pins identified with "NC" or "DNC" must be left unconnected.", 8 DNC "NC, DNC: All pins identified with "NC" or "DNC" must be left unconnected.", 9 NC "NC, DNC: All pins identified with "NC" or "DNC" must be left unconnected.", 11 NC "NC, DNC: All pins identified with "NC" or "DNC" must be left unconnected.", 12 NC "NC, DNC: All pins identified with "NC" or "DNC" must be left unconnected."

## LTC4266AIUHF-2#TRPBF
designator U?
Quad PoE / PoE+ / LTPoE++ PSE Controller, 38-pin QFN (UHF-38), -40 to 85 degC, Pb-Free, Tape and Reel; Manufacturer: Linear Technology; PartNumber: LTC4266AIUHF-2#TRPBF; Channels(#): 4; Extended Temp: I; I2C Interface: yes; Max Power(W): 52.7; DatasheetVersion: Rev. C; PackageVersion: Rev. C, 06/2010; PackageReference: UHF-38; PackageDescription: 38-Pin Plastic QFN, Body 7 x 5 mm, Pitch 0.5 mm; Supplier 1: Digi-Key; Supplier Part Number 1: LTC4266AIUHF-2#TRPBF-ND; Packing: Tape and Reel; PoE Type: LTPoE++; PSE/PD: PSE; RoHS: TRUE; Mounting Technology: Surface Mount; Code_JEDEC: MO-220; ComponentLink1Description: Manufacturer URL; ComponentLink1URL: http://www.linear.com/; ComponentLink2Description: Datasheet; ComponentLink2URL: http://cds.linear.com/docs/en/datasheet/4266acfc.pdf; ComponentLink3Description: Package Specification; ComponentLink3URL: http://cds.linear.com/docs/en/packaging/QFN_38_05-08-1701.pdf
footprint LT-UHF-38_N (QFN, 38-Leads, Body 7.1x5.1mm, Pitch 0.5mm, Thermal Pad 3.15x5.15mm, IPC Medium Density)
footprint LT-UHF-38_L (QFN, 38-Leads, Body 7.1x5.1mm, Pitch 0.5mm, Thermal Pad 3.15x5.15mm, IPC High Density)
footprint LT-UHF-38_M (QFN, 38-Leads, Body 7.1x5.1mm, Pitch 0.5mm, Thermal Pad 3.15x5.15mm, IPC Low Density)
part A pins: 1 SDAOUT (oc) "SDAOUT: Serial Data Output, Open Drain Data Output for the I2C Serial Interface Bus. The LTC4266A/LTC4266C uses two pins to implement the bidirectional SDA function to simplify optoisolation of the I2C bus. To implement a (See Datasheet)", 3 SDAIN (in) "SDAIN: Serial Data Input. High impedance data input for the I2C serial interface bus. The LTC4266A/LTC4266C uses two pins to implement the bidirectional SDA function to simplify optoisolation of the I2C bus. To implement a (See Datasheet)", 4 AD3 (in) "AD3: Address Bit 3. Tie the address pins high or low to set the I2C serial address to which the LTC4266A/LTC4266C responds. This address will be 010A3A2A1A0b. Internally pulled up to VDD.", 5 AD2 (in) "AD2: Address Bit 2. See AD3.", 6 AD1 (in) "AD1: Address Bit 1. See AD3.", 7 AD0 (in) "AD0: Address Bit 0. See AD3.", 10 DGND (power) "DGND: Digital Ground. DGND is the return for the VDD supply.", 13 VDD (power) "VDD: Logic Power Supply. Connect to a 3.3V power supply relative to DGND. VDD must be bypassed to DGND near the LTC4266A/LTC4266C with at least a 0.1uF capacitor.", 14 ~{SHDN1} (in) "S\H\D\N\1\: Shutdown Port 1, Active Low. When pulled low, S\H\D\N\1\ shuts down port 1, regardless of the state of the internal registers. Pulling S\H\D\N\1\ low is equivalent to setting the Reset Port 1 bit in the Reset (See Datasheet)", 15 ~{SHDN2} (in) "S\H\D\N\2\: Shutdown Port 2, Active Low. See S\H\D\N\1\.", 16 ~{SHDN3} (in) "S\H\D\N\3\: Shutdown Port 3, Active Low. See S\H\D\N\1\.", 17 ~{SHDN4} (in) "S\H\D\N\4\: Shutdown Port 4, Active Low. See S\H\D\N\1\.", 18 AGND (power) "AGND: Analog Ground. AGND is the return for the VEE supply.", 19 SENSE4 (in) "SENSE4: Port 4 Current Sense Input. SENSE4 monitors the external MOSFET current via a 0.5ohm or 0.25ohm sense resistor between SENSE4 and VEE. Whenever the voltage across the sense resistor exceeds the overcurrent detection (See Datasheet)", 20 GATE4 (out) "GATE4: Port 4 Gate Drive. GATE4 should be connected to the gate of the external MOSFET for port 4. When the MOSFET is turned on, the gate voltage is driven to 12V (typ) above VEE. During a current limit condition, the (See Datasheet)", 21 OUT4 (in) "OUT4: Port 4 Output Voltage Monitor. OUT4 should be connected to the output port. A current limit foldback circuit limits the power dissipation in the external MOSFET by reducing the current limit threshold when the (See Datasheet)", 22 SENSE3 (in) "SENSE3: Port 3 Current Sense Input. See SENSE4.", 23 GATE3 (out) "GATE3: Port 3 Gate Drive. See GATE4.", 24 OUT3 (in) "OUT3: Port 3 Output Voltage Monitor. See OUT4.", 25 VEE (power) "VEE: Main Supply Input. Connect to a -45V to -57V supply, relative to AGND.", 26 VEE (power) "VEE: Main Supply Input. Connect to a -45V to -57V supply, relative to AGND.", 27 SENSE2 (in) "SENSE2: Port 2 Current Sense Input. See SENSE4.", 28 GATE2 (out) "GATE2: Port 2 Gate Drive. See GATE4.", 29 OUT2 (in) "OUT2: Port 2 Output Voltage Monitor. See OUT4.", 30 SENSE1 (in) "SENSE1: Port 1 Current Sense Input. See SENSE4.", 31 GATE1 (out) "GATE1: Port 1 Gate Drive. See GATE 4.", 32 OUT1 (in) "OUT1: Port 1 Output Voltage Monitor. See OUT4.", 33 AUTO (in) "AUTO: AUTO Pin Mode Input. AUTO pin mode allows the LTC4266A/LTC4266C to detect and power up a PD even if there is no host controller present on the I2C bus. The voltage of the AUTO pin determines the state of the internal (See Datasheet)", 34 ~{MSD} (in) "M\S\D\: Maskable Shutdown Input. Active low. When pulled low, all ports that have their corresponding mask bit set in the Misc Config register (17h) will be reset, equivalent to pulling the S\H\D\N\ pin low. Internal (See Datasheet)", 35 ~{RESET} (in) "R\E\S\E\T\: Chip R\E\S\E\T\, Active Low. When the R\E\S\E\T\ pin is low, the LTC4266A/LTC4266C is held inactive with all ports off and all internal registers R\E\S\E\T\ to their power-up states. When R\E\S\E\T\ is pulled (See Datasheet)", 36 MID (in) "MID: Midspan Mode Input. When high, the LTC4266A/LTC4266C acts as a midspan device. Internally pulled down to DGND.", 37 ~{INT} (hiz) "I\N\T\: I\N\T\errupt Output, Open Drain. I\N\T\ will pull low when any one of several events occur in the LTC4266A/LTC4266C. It will return to a high impedance state when bits 6 or 7 are set in the Reset PB register (1Ah). (See Datasheet)", 38 SCL (in) "SCL: Serial Clock Input. High impedance clock input for the I2C serial interface bus. SCL must be tied high if not used.", 39 EP (power)
part B pins: 2 NC "NC, DNC: All pins identified with "NC" or "DNC" must be left unconnected.", 8 DNC "NC, DNC: All pins identified with "NC" or "DNC" must be left unconnected.", 9 NC "NC, DNC: All pins identified with "NC" or "DNC" must be left unconnected.", 11 NC "NC, DNC: All pins identified with "NC" or "DNC" must be left unconnected.", 12 NC "NC, DNC: All pins identified with "NC" or "DNC" must be left unconnected."